# EAGLE library part ADA4940 (library AnalogDevices)
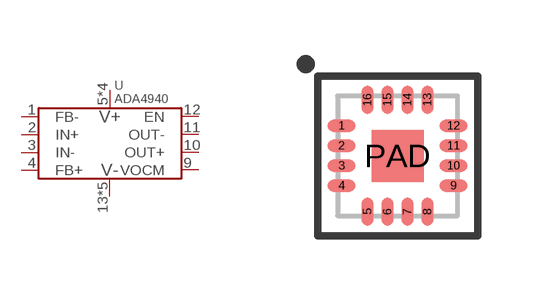
[diagram p4: symbol with the pads of VQFN-16-3MM; footprint VQFN-16-3MM]

Designator prefix U

## ADA4940-1ACPZ-R7  [VQFN-16-3MM]
1  FB-
2  IN+
3  IN-
4  FB+
5  VS+
6  VS+
7  VS+
8  VS+
9  VOCM
10  OUT+
11  OUT-
12  EN
13  VS-
14  VS-
15  VS-
16  VS-
PAD  VS-

## Footprint VQFN-16-3MM (pad centres in mm)
smd 0.7 x 0.3: 1 -1.4,0.75; 2 -1.4,0.25; 3 -1.4,-0.25; 4 -1.4,-0.75; 9 1.4,-0.75; 10 1.4,-0.25; 11 1.4,0.25; 12 1.4,0.75
smd 0.3 x 0.7: 5 -0.75,-1.4; 6 -0.25,-1.4; 7 0.25,-1.4; 8 0.75,-1.4; 13 0.75,1.4; 14 0.25,1.4; 15 -0.25,1.4; 16 -0.75,1.4
smd 1.3 x 1.3: PAD 0,0